# Altium schematic symbol library CON3X2.SchLib: 1 symbol
Pins are listed as number, name and electrical type; pins without a type are passive.

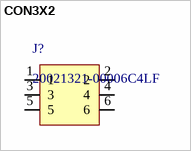
[diagram p0: symbol CON3X2]

## CON3X2
designator J?, comment 20021321-00006C4LF
PDF: http://portal.fciconnect.com/Comergent//fci/drawing/20021321.pdf; BUY_LINK: http://www.digikey.com/product-detail/en/20021321-00006C4LF/609-3704-1-ND/2209148; PRICE: 0.63000; ID: 20021321-00006C4LF
footprint 20021321-00006C4LF
pins: 1, 2, 3, 4, 5, 6